# Altium footprint library 3.07-测试点-跳线座-冷压插片.PcbLib: 81 footprints (part 3 of 6)
Each footprint in its own frame and in the unit in brackets; x right, y up, seen from the top. Pads: shape width x height; smd on the part's side, far side on the other; paste and mask are expansions set on the pad; w line width, h text height; cw(c..) or ccw(c..) is an arc to the next point about the centre after c.
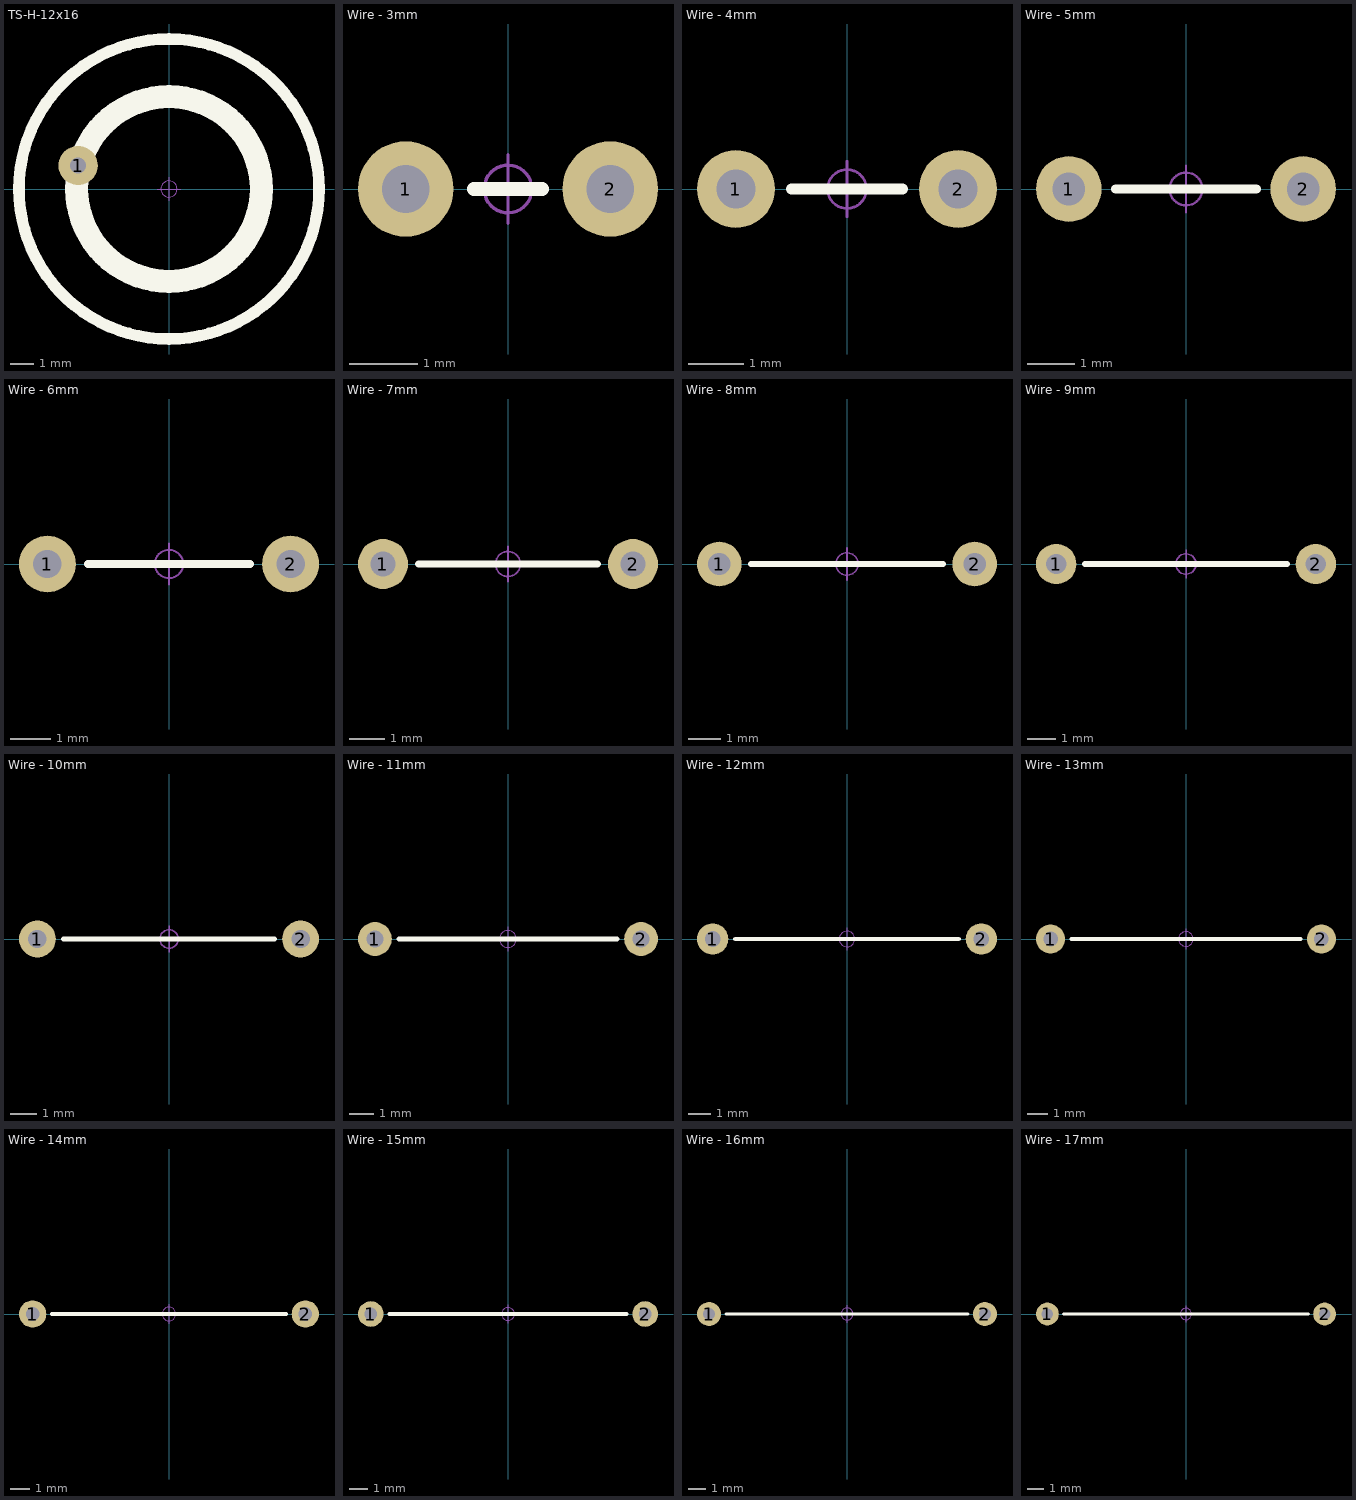
[diagram p2: the footprints below, top view; thin cyan lines are the x and y axes]

## TS-H-12x16 [mm] "顶部直径：12mm，高：16mm              淘宝ID:黄晶宝石"
pads (1):
  round 1.7 hole 0.7: 1(-3.937,1.016)
Top Overlay:
  circle w1: c0,0 r4
  circle w0.5: c0,0 r6.5
Mechanical 15:
  circle w0.05: c0,0 r0.35
  lines w0.05: -0.5,0 0.5,0 ; 0,-0.5 0,0.5
3D body "TS-H-10x16.STEP": height 16, standoff -2.5, extent -6.25,-5.868 5.999,6.125

## Wire - 3mm [mm] "直接：0.5mm，脚距：3mm"
pads (2):
  round 1.4 hole 0.7: 1(-1.5,0) 2(1.5,0)
Top Overlay:
  lines w0.2: -0.5,0 0.5,0
Mechanical 15:
  circle w0.05: c0,0 r0.35
  lines w0.05: -0.5,0 0.5,0 ; 0,-0.5 0,0.5
3D body "Wire - 3mm.STEP": height 0.95, standoff -2.8, extent -1.75,-0.25 1.75,0.25

## Wire - 4mm [mm] "直接：0.5mm，脚距：4mm          淘宝ID:黄晶宝石"
pads (2):
  round 1.4 hole 0.7: 1(-2,0) 2(2,0)
Top Overlay:
  lines w0.2: -1,0 1,0
Mechanical 15:
  circle w0.05: c0,0 r0.35
  lines w0.05: -0.5,0 0.5,0 ; 0,-0.5 0,0.5
3D body "Wire - 4mm.STEP": height 0.95, standoff -2.8, extent -2.25,-0.25 2.25,0.25

## Wire - 5mm [mm] "直接：0.5mm，脚距：5mm             淘宝ID:黄晶宝石"
pads (2):
  round 1.4 hole 0.7: 1(-2.5,0) 2(2.5,0)
Top Overlay:
  lines w0.2: -1.5,0 1.5,0
Mechanical 15:
  circle w0.05: c0,0 r0.35
  lines w0.05: -0.5,0 0.5,0 ; 0,-0.5 0,0.5
3D body "Wire - 5mm.STEP": height 0.95, standoff -2.8, extent -2.75,-0.25 2.75,0.25

## Wire - 6mm [mm] "直接：0.5mm，脚距：6mm           淘宝ID:黄晶宝石"
pads (2):
  round 1.4 hole 0.7: 1(-3,0) 2(3,0)
Top Overlay:
  lines w0.2: -2,0 2,0
Mechanical 15:
  circle w0.05: c0,0 r0.35
  lines w0.05: -0.5,0 0.5,0 ; 0,-0.5 0,0.5
3D body "Wire - 6mm.STEP": height 0.95, standoff -2.8, extent -3.25,-0.25 3.25,0.25

## Wire - 7mm [mm] "直接：0.5mm，脚距：7mm           淘宝ID:黄晶宝石"
pads (2):
  round 1.4 hole 0.7: 1(-3.5,0) 2(3.5,0)
Top Overlay:
  lines w0.2: -2.5,0 2.5,0
Mechanical 15:
  circle w0.05: c0,0 r0.35
  lines w0.05: -0.5,0 0.5,0 ; 0,-0.5 0,0.5
3D body "Wire - 7mm.STEP": height 0.95, standoff -2.8, extent -3.75,-0.25 3.75,0.25

## Wire - 8mm [mm] "直接：0.5mm，脚距：8mm            淘宝ID:黄晶宝石"
pads (2):
  round 1.4 hole 0.7: 1(-4,0) 2(4,0)
Top Overlay:
  lines w0.2: -3,0 3,0
Mechanical 15:
  circle w0.05: c0,0 r0.35
  lines w0.05: -0.5,0 0.5,0 ; 0,-0.5 0,0.5
3D body "Wire - 8mm.STEP": height 0.95, standoff -2.8, extent -4.25,-0.25 4.25,0.25

## Wire - 9mm [mm] "直接：0.5mm，脚距：9mm"
pads (2):
  round 1.4 hole 0.7: 1(-4.5,0) 2(4.5,0)
Top Overlay:
  lines w0.2: -3.5,0 3.5,0
Mechanical 15:
  circle w0.05: c0,0 r0.35
  lines w0.05: -0.5,0 0.5,0 ; 0,-0.5 0,0.5
3D body "Wire - 9mm.STEP": height 0.95, standoff -2.8, extent -4.75,-0.25 4.75,0.25

## Wire - 10mm [mm] "直接：0.5mm，脚距：10mm"
pads (2):
  round 1.4 hole 0.7: 1(-5,0) 2(5,0)
Top Overlay:
  lines w0.2: -4,0 4,0
Mechanical 15:
  circle w0.05: c0,0 r0.35
  lines w0.05: -0.5,0 0.5,0 ; 0,-0.5 0,0.5
3D body "Wire - 10mm.STEP": height 0.95, standoff -2.8, extent -5.25,-0.25 5.25,0.25

## Wire - 11mm [mm] "直接：0.5mm，脚距：11mm"
pads (2):
  round 1.4 hole 0.7: 1(-5.5,0) 2(5.5,0)
Top Overlay:
  lines w0.2: -4.5,0 4.5,0
Mechanical 15:
  circle w0.05: c0,0 r0.35
  lines w0.05: -0.5,0 0.5,0 ; 0,-0.5 0,0.5
3D body "Wire - 11mm.STEP": height 0.95, standoff -2.8, extent -5.75,-0.25 5.75,0.25

## Wire - 12mm [mm] "直接：0.5mm，脚距：12mm"
pads (2):
  round 1.4 hole 0.7: 1(-6,0) 2(6,0)
Top Overlay:
  lines w0.2: -5,0 5,0
Mechanical 15:
  circle w0.05: c0,0 r0.35
  lines w0.05: -0.5,0 0.5,0 ; 0,-0.5 0,0.5
3D body "Wire - 12mm.STEP": height 0.95, standoff -2.8, extent -6.25,-0.25 6.25,0.25

## Wire - 13mm [mm] "直接：0.5mm，脚距：13mm"
pads (2):
  round 1.4 hole 0.7: 1(-6.5,0) 2(6.5,0)
Top Overlay:
  lines w0.2: -5.5,0 5.5,0
Mechanical 15:
  circle w0.05: c0,0 r0.35
  lines w0.05: -0.5,0 0.5,0 ; 0,-0.5 0,0.5
3D body "Wire - 13mm.STEP": height 0.95, standoff -2.8, extent -6.75,-0.25 6.75,0.25

## Wire - 14mm [mm] "直接：0.5mm，脚距：14mm"
pads (2):
  round 1.4 hole 0.7: 1(-7,0) 2(7,0)
Top Overlay:
  lines w0.2: -6,0 6,0
Mechanical 15:
  circle w0.05: c0,0 r0.35
  lines w0.05: -0.5,0 0.5,0 ; 0,-0.5 0,0.5
3D body "Wire - 14mm.STEP": height 0.95, standoff -2.8, extent -7.25,-0.25 7.25,0.25

## Wire - 15mm [mm] "直接：0.5mm，脚距：15mm"
pads (2):
  round 1.4 hole 0.7: 1(-7.5,0) 2(7.5,0)
Top Overlay:
  lines w0.2: -6.5,0 6.5,0
Mechanical 15:
  circle w0.05: c0,0 r0.35
  lines w0.05: -0.5,0 0.5,0 ; 0,-0.5 0,0.5
3D body "Wire - 15mm.STEP": height 0.95, standoff -2.8, extent -7.75,-0.25 7.75,0.25

## Wire - 16mm [mm] "直接：0.5mm，脚距：16mm"
pads (2):
  round 1.4 hole 0.7: 1(-8,0) 2(8,0)
Top Overlay:
  lines w0.2: -7,0 7,0
Mechanical 15:
  circle w0.05: c0,0 r0.35
  lines w0.05: -0.5,0 0.5,0 ; 0,-0.5 0,0.5
3D body "Wire - 15mm.STEP": height 0.95, standoff -2.8, extent -7.75,-0.25 7.75,0.25

## Wire - 17mm [mm] "直接：0.5mm，脚距：17mm"
pads (2):
  round 1.4 hole 0.7: 1(-8.5,0) 2(8.5,0)
Top Overlay:
  lines w0.2: -7.5,0 7.5,0
Mechanical 15:
  circle w0.05: c0,0 r0.35
  lines w0.05: -0.5,0 0.5,0 ; 0,-0.5 0,0.5
3D body "Wire - 17mm.STEP": height 0.95, standoff -2.8, extent -8.75,-0.25 8.75,0.25